# Altium schematic symbol library CRCW20101K60JNEF.schlib: 1 symbol
Pins are listed as number, name and electrical type; pins without a type are passive.

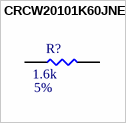
[diagram p0: symbol CRCW20101K60JNEF]

## CRCW20101K60JNEF
designator R?  Tolerance: 5%  Resistance: 1.6k  (hidden comment: CRCW20101K60JNEF)
RES SMD 1.6K OHM 5% 3/4W 2010; MFR: Vishay / Dale; Qualifications: Automotive Grade; ComponentLink1Description: Datasheet; ComponentLink1URL: https://www.mouser.ca/datasheet/2/427/dcrcwe3-1762152.pdf; Footprint: RES2010; PN: CRCW20101K60JNEF; Package: 2010; Power Rating: 3/4W; Supplier 1: Digi-Key; Supplier Part Number 1: 541-1.6KWCT-ND
footprint RES2010 (Generic 2010 Footprint)
pins: 1, 2